# Altium schematic symbol library STM32G0C1VCT6.SchLib: 1 symbol
Pins are listed as number, name and electrical type; pins without a type are passive.

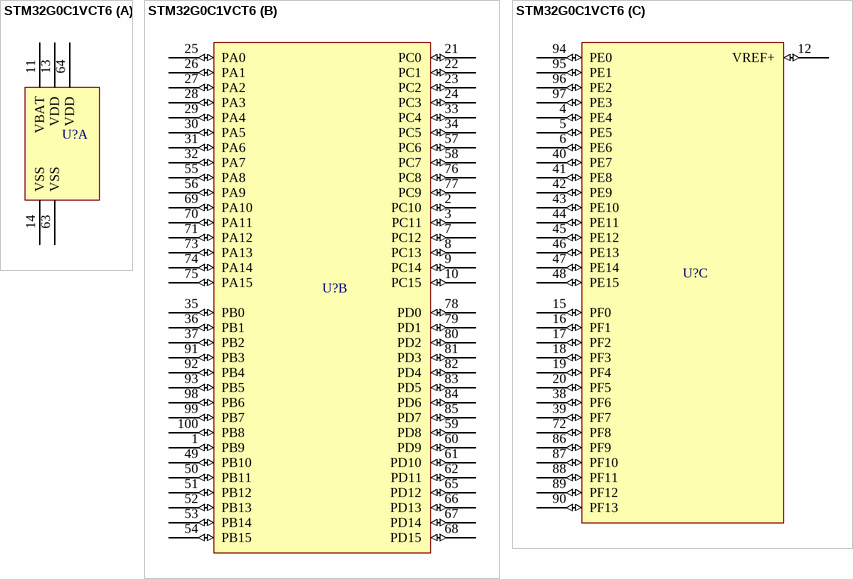
[diagram p0: symbol STM32G0C1VCT6]

## STM32G0C1VCT6
designator U?  (value not drawn)
Mainstream Arm Cortex-M0+ 32-bit MCU, up to 512KB Flash, 144KB RAM, 6x USART, timers, ADC, DAC, comm. I/Fs, AES, RNG, 1.7-3.6V
part A pins: 11 VBAT (power), 13 VDD (power), 14 VSS (power), 63 VSS (power), 64 VDD (power)
part B pins: 1 PB9 (io), 2 PC10 (io), 3 PC11 (io), 7 PC12 (io), 8 PC13 (io), 9 PC14 (io), 10 PC15 (io), 21 PC0 (io), 22 PC1 (io), 23 PC2 (io), 24 PC3 (io), 25 PA0 (io), 26 PA1 (io), 27 PA2 (io), 28 PA3 (io), 29 PA4 (io), 30 PA5 (io), 31 PA6 (io), 32 PA7 (io), 33 PC4 (io), 34 PC5 (io), 35 PB0 (io), 36 PB1 (io), 37 PB2 (io), 49 PB10 (io), 50 PB11 (io), 51 PB12 (io), 52 PB13 (io), 53 PB14 (io), 54 PB15 (io), 55 PA8 (io), 56 PA9 (io), 57 PC6 (io), 58 PC7 (io), 59 PD8 (io), 60 PD9 (io), 61 PD10 (io), 62 PD11 (io), 65 PD12 (io), 66 PD13 (io), 67 PD14 (io), 68 PD15 (io), 69 PA10 (io), 70 PA11 (io), 71 PA12 (io), 73 PA13 (io), 74 PA14 (io), 75 PA15 (io), 76 PC8 (io), 77 PC9 (io), 78 PD0 (io), 79 PD1 (io), 80 PD2 (io), 81 PD3 (io), 82 PD4 (io), 83 PD5 (io), 84 PD6 (io), 85 PD7 (io), 91 PB3 (io), 92 PB4 (io), 93 PB5 (io), 98 PB6 (io), 99 PB7 (io), 100 PB8 (io)
part C pins: 4 PE4 (io), 5 PE5 (io), 6 PE6 (io), 12 VREF+ (io), 15 PF0 (io), 16 PF1 (io), 17 PF2 (io), 18 PF3 (io), 19 PF4 (io), 20 PF5 (io), 38 PF6 (io), 39 PF7 (io), 40 PE7 (io), 41 PE8 (io), 42 PE9 (io), 43 PE10 (io), 44 PE11 (io), 45 PE12 (io), 46 PE13 (io), 47 PE14 (io), 48 PE15 (io), 72 PF8 (io), 86 PF9 (io), 87 PF10 (io), 88 PF11 (io), 89 PF12 (io), 90 PF13 (io), 94 PE0 (io), 95 PE1 (io), 96 PE2 (io), 97 PE3 (io)